# Altium schematic symbol library RF-UNIT.SchLib: 483 symbols (part 2 of 2)
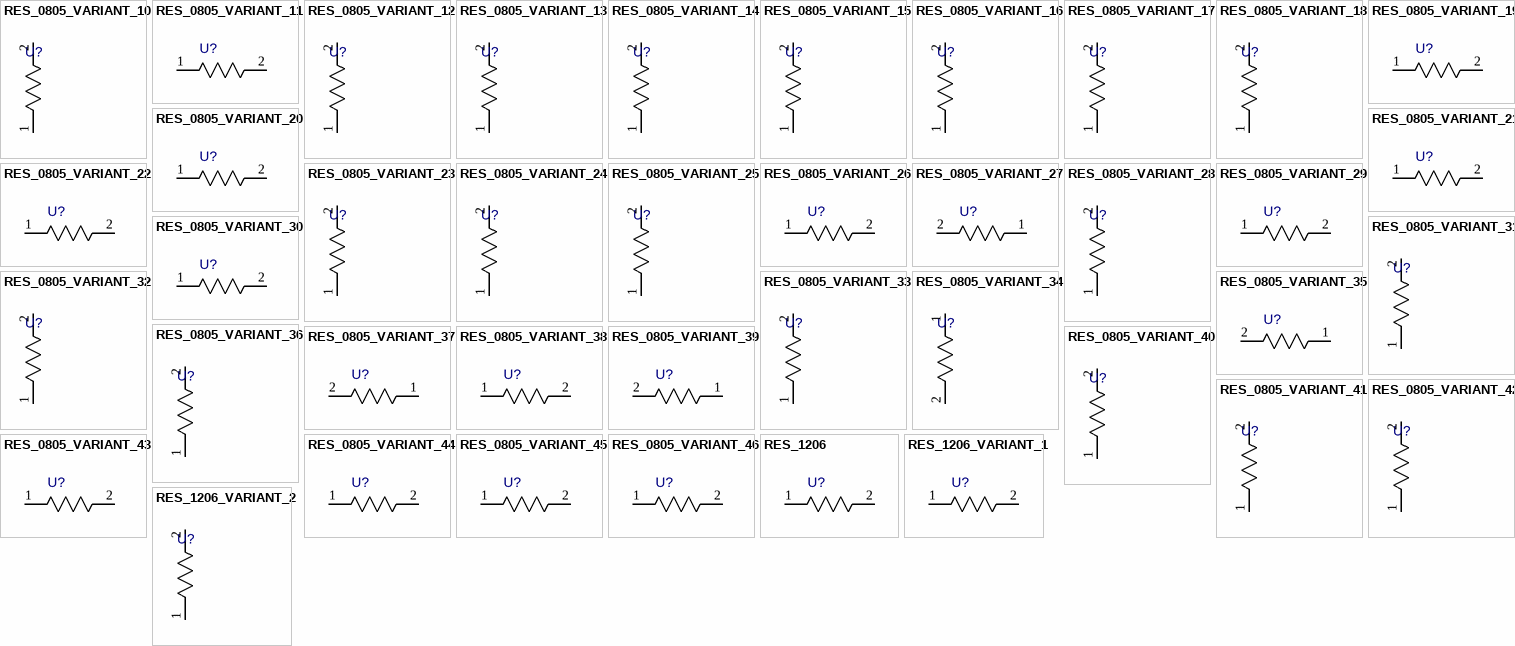
[diagram p13: symbols RES_0805_VARIANT_10 to RES_1206_VARIANT_2]

## RES_0805_VARIANT_45
designator U?, comment RES_0805  (value not drawn)
RES_0805_VARIANT_45; Value: *
footprint RES_0805
pins: 1, 2

## RES_0805_VARIANT_46
designator U?, comment RES_0805  (value not drawn)
RES_0805_VARIANT_46; Value: *
footprint RES_0805
pins: 1, 2

## RES_1206
designator U?  (value not drawn)
Value: *
footprint RES_1206
pins: 1, 2

## RES_1206_VARIANT_1
designator U?, comment RES_1206  (value not drawn)
RES_1206_VARIANT_1; Value: *
footprint RES_1206
pins: 1, 2

## RES_1206_VARIANT_2
designator U?, comment RES_1206  (value not drawn)
RES_1206_VARIANT_2; Value: *
footprint RES_1206
pins: 1, 2

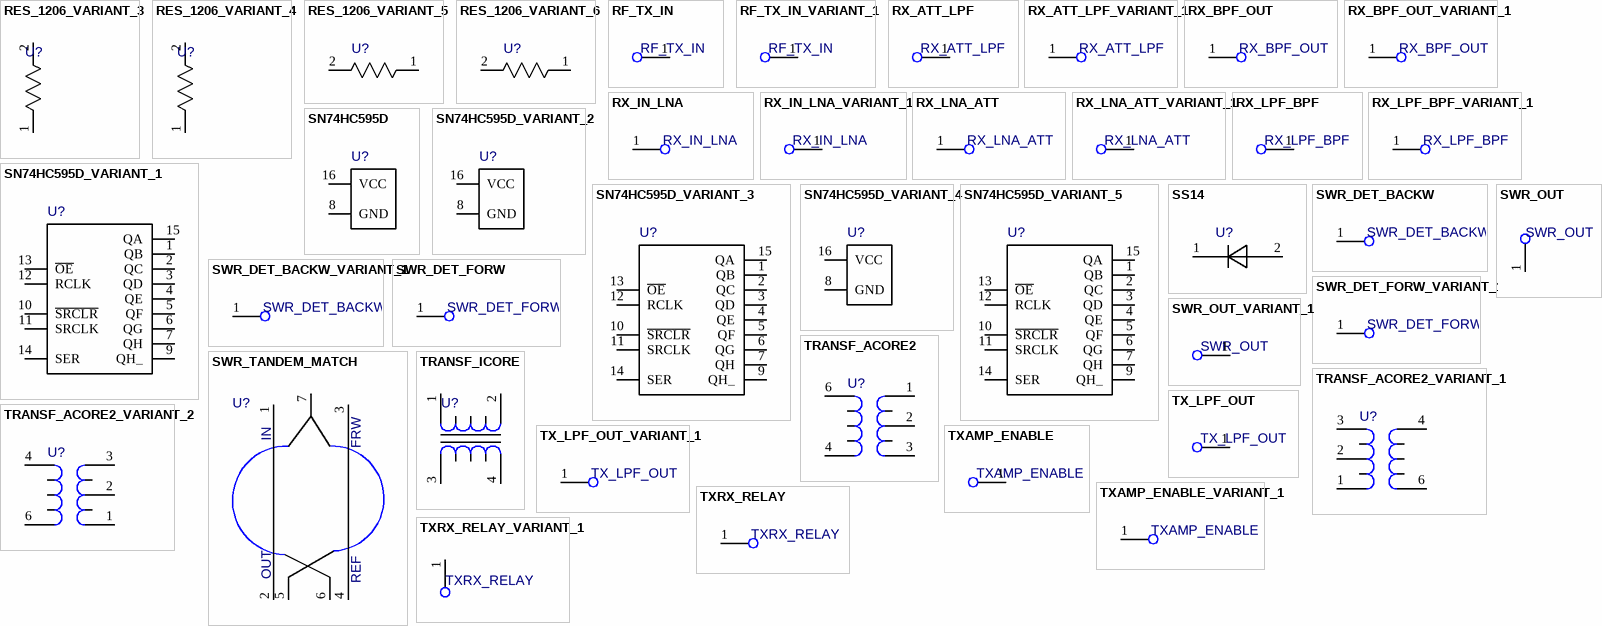
[diagram p11: symbols RES_1206_VARIANT_3 to TXRX_RELAY_VARIANT_1]

## RES_1206_VARIANT_3
designator U?, comment RES_1206  (value not drawn)
RES_1206_VARIANT_3; Value: *
footprint RES_1206
pins: 1, 2

## RES_1206_VARIANT_4
designator U?, comment RES_1206  (value not drawn)
RES_1206_VARIANT_4; Value: *
footprint RES_1206
pins: 1, 2

## RES_1206_VARIANT_5
designator U?, comment RES_1206  (value not drawn)
RES_1206_VARIANT_5; Value: *
footprint RES_1206
pins: 1, 2

## RES_1206_VARIANT_6
designator U?, comment RES_1206  (value not drawn)
RES_1206_VARIANT_6; Value: *
footprint RES_1206
pins: 1, 2

## RF_TX_IN
designator U?
Value: *
pins: 1

## RF_TX_IN_VARIANT_1
designator U?, comment RF_TX_IN
RF_TX_IN_VARIANT_1; Value: *
pins: 1

## RX_ATT_LPF
designator U?
Value: *
pins: 1

## RX_ATT_LPF_VARIANT_1
designator U?, comment RX_ATT_LPF
RX_ATT_LPF_VARIANT_1; Value: *
pins: 1

## RX_BPF_OUT
designator U?
Value: *
pins: 1

## RX_BPF_OUT_VARIANT_1
designator U?, comment RX_BPF_OUT
RX_BPF_OUT_VARIANT_1; Value: *
pins: 1

## RX_IN_LNA
designator U?
Value: *
pins: 1

## RX_IN_LNA_VARIANT_1
designator U?, comment RX_IN_LNA
RX_IN_LNA_VARIANT_1; Value: *
pins: 1

## RX_LNA_ATT
designator U?
Value: *
pins: 1

## RX_LNA_ATT_VARIANT_1
designator U?, comment RX_LNA_ATT
RX_LNA_ATT_VARIANT_1; Value: *
pins: 1

## RX_LPF_BPF
designator U?
Value: *
pins: 1

## RX_LPF_BPF_VARIANT_1
designator U?, comment RX_LPF_BPF
RX_LPF_BPF_VARIANT_1; Value: *
pins: 1

## SN74HC595D
designator U?  (value not drawn)
Value: *
footprint SOIC-16/150mil
pins: 8 GND, 16 VCC

## SN74HC595D_VARIANT_1
designator U?, comment SN74HC595D  (value not drawn)
SN74HC595D_VARIANT_1; Value: *
footprint SOIC-16/150mil
pins: 1 QB, 2 QC, 3 QD, 4 QE, 5 QF, 6 QG, 7 QH, 9 QH_, 10 ~{SRCLR}, 11 SRCLK, 12 RCLK, 13 ~{OE}, 14 SER, 15 QA

## SN74HC595D_VARIANT_2
designator U?, comment SN74HC595D  (value not drawn)
SN74HC595D_VARIANT_2; Value: *
footprint SOIC-16/150mil
pins: 8 GND, 16 VCC

## SN74HC595D_VARIANT_3
designator U?, comment SN74HC595D  (value not drawn)
SN74HC595D_VARIANT_3; Value: *
footprint SOIC-16/150mil
pins: 1 QB, 2 QC, 3 QD, 4 QE, 5 QF, 6 QG, 7 QH, 9 QH_, 10 ~{SRCLR}, 11 SRCLK, 12 RCLK, 13 ~{OE}, 14 SER, 15 QA

## SN74HC595D_VARIANT_4
designator U?, comment SN74HC595D  (value not drawn)
SN74HC595D_VARIANT_4; Value: *
footprint SOIC-16/150mil
pins: 8 GND, 16 VCC

## SN74HC595D_VARIANT_5
designator U?, comment SN74HC595D  (value not drawn)
SN74HC595D_VARIANT_5; Value: *
footprint SOIC-16/150mil
pins: 1 QB, 2 QC, 3 QD, 4 QE, 5 QF, 6 QG, 7 QH, 9 QH_, 10 ~{SRCLR}, 11 SRCLK, 12 RCLK, 13 ~{OE}, 14 SER, 15 QA

## SS14
designator U?  (value not drawn)
Value: *
footprint DIO_1206
pins: 1 K, 2 A

## SWR_DET_BACKW
designator U?
Value: *
pins: 1

## SWR_DET_BACKW_VARIANT_1
designator U?, comment SWR_DET_BACKW
SWR_DET_BACKW_VARIANT_1; Value: *
pins: 1

## SWR_DET_FORW
designator U?
Value: *
pins: 1

## SWR_DET_FORW_VARIANT_1
designator U?, comment SWR_DET_FORW
SWR_DET_FORW_VARIANT_1; Value: *
pins: 1

## SWR_OUT
designator U?
Value: *
pins: 1

## SWR_OUT_VARIANT_1
designator U?, comment SWR_OUT
SWR_OUT_VARIANT_1; Value: *
pins: 1

## SWR_TANDEM_MATCH
designator U?  (value not drawn)
Value: *
footprint SWR_DETECTOR_TANDEM_MATCH
pins: 1, 2, 3, 4, 5, 6, 7
text: IN; FRW; OUT; REF

## TRANSF_ACORE2
designator U?  (value not drawn)
Value: *
footprint ADT-TRANS-HYBRID
pins: 1 S3, 2 S2, 3 S1, 4 P1, 6 P2

## TRANSF_ACORE2_VARIANT_1
designator U?, comment TRANSF_ACORE2  (value not drawn)
TRANSF_ACORE2_VARIANT_1; Value: *
footprint ADT-TRANS-HYBRID
pins: 1 S3, 2 S2, 3 S1, 4 P1, 6 P2

## TRANSF_ACORE2_VARIANT_2
designator U?, comment TRANSF_ACORE2  (value not drawn)
TRANSF_ACORE2_VARIANT_2; Value: *
footprint ADT-TRANS-HYBRID
pins: 1 S3, 2 S2, 3 S1, 4 P1, 6 P2

## TRANSF_ICORE
designator U?  (value not drawn)
Value: *
footprint RF-OUT-TRANS
pins: 1 P1, 2 P2, 3 S1, 4 S2

## TX_LPF_OUT
designator U?
Value: *
pins: 1

## TX_LPF_OUT_VARIANT_1
designator U?, comment TX_LPF_OUT
TX_LPF_OUT_VARIANT_1; Value: *
pins: 1

## TXAMP_ENABLE
designator U?
Value: *
pins: 1

## TXAMP_ENABLE_VARIANT_1
designator U?, comment TXAMP_ENABLE
TXAMP_ENABLE_VARIANT_1; Value: *
pins: 1

## TXRX_RELAY
designator U?
Value: *
pins: 1

## TXRX_RELAY_VARIANT_1
designator U?, comment TXRX_RELAY
TXRX_RELAY_VARIANT_1; Value: *
pins: 1

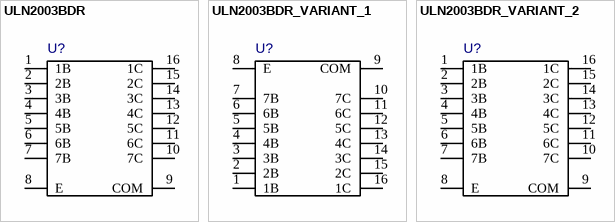
[diagram p12: symbols ULN2003BDR to ULN2003BDR_VARIANT_2]

## ULN2003BDR
designator U?  (value not drawn)
Value: *
footprint SOIC-16/150mil
pins: 1 1B, 2 2B, 3 3B, 4 4B, 5 5B, 6 6B, 7 7B, 8 E, 9 COM, 10 7C, 11 6C, 12 5C, 13 4C, 14 3C, 15 2C, 16 1C

## ULN2003BDR_VARIANT_1
designator U?, comment ULN2003BDR  (value not drawn)
ULN2003BDR_VARIANT_1; Value: *
footprint SOIC-16/150mil
pins: 1 1B, 2 2B, 3 3B, 4 4B, 5 5B, 6 6B, 7 7B, 8 E, 9 COM, 10 7C, 11 6C, 12 5C, 13 4C, 14 3C, 15 2C, 16 1C

## ULN2003BDR_VARIANT_2
designator U?, comment ULN2003BDR  (value not drawn)
ULN2003BDR_VARIANT_2; Value: *
footprint SOIC-16/150mil
pins: 1 1B, 2 2B, 3 3B, 4 4B, 5 5B, 6 6B, 7 7B, 8 E, 9 COM, 10 7C, 11 6C, 12 5C, 13 4C, 14 3C, 15 2C, 16 1C